# EAGLE library part DG405DY-T1-E3 (library Vishay_By_element14_Batch_1)
Low-Power, High-Speed CMOS Analog Switches
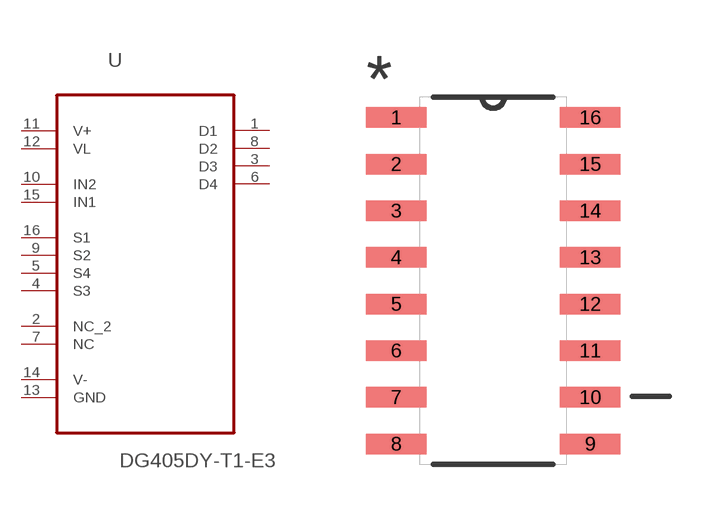
[diagram p26: symbol with the pads of SOIC127P600X175-16N; footprint SOIC127P600X175-16N]

Designator prefix U

## DG405DY-T1-E3 (MPN: DG405DY-T1-E3; OC_FARNELL: 1256135; OC_NEWARK: 49K9547; PACKAGE: SOIC-16; SUPPLIER: Vishay)  [SOIC127P600X175-16N]
1  D1  out
2  NC_2  nc
3  D3  out
4  S3  pas
5  S4  pas
6  D4  out
7  NC  nc
8  D2  out
9  S2  pas
10  IN2  in
11  V+  pwr
12  VL  pwr
13  GND  pas
14  V-  pwr
15  IN1  in
16  S1  pas

## Footprint SOIC127P600X175-16N (pad centres in mm)
smd 1.651 x 0.559: 1 -2.642,4.445; 2 -2.642,3.175; 3 -2.642,1.905; 4 -2.642,0.635; 5 -2.642,-0.635; 6 -2.642,-1.905; 7 -2.642,-3.175; 8 -2.642,-4.445; 9 2.642,-4.445; 10 2.642,-3.175; 11 2.642,-1.905; 12 2.642,-0.635; 13 2.642,0.635; 14 2.642,1.905; 15 2.642,3.175; 16 2.642,4.445